# EAGLE library part MPU-6050 (library MRDT-Main)
MPU-6000 - I2C address is 0x68 with AD0 low and 0x69 with AD0 high.
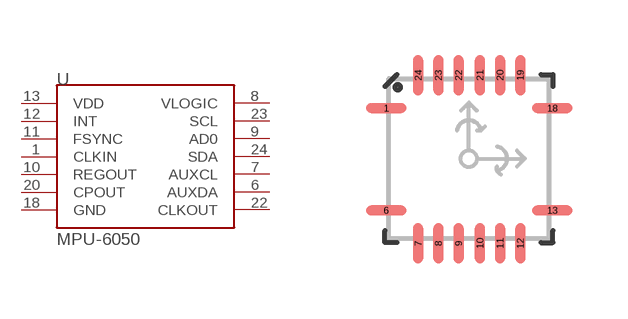
[diagram p1: symbol with the pads of QFN-24-TESTING; footprint QFN-24-TESTING]

Designator prefix U

## MPU-6050QFN-24  [QFN-24-TESTING]
1  CLKIN
6  AUXDA
7  AUXCL
8  VLOGIC
9  AD0
10  REGOUT
11  FSYNC
12  INT
13  VDD
18  GND
20  CPOUT
22  CLKOUT
23  SCL
24  SDA

## Footprint QFN-24-TESTING (pad centres in mm)
This is the testing package I pulled from the MPU-6050 breakout board. This package is tested and works.
smd 1.016 x 0.254: 1 -2.066,1.257; 6 -2.066,-1.297; 13 2.086,-1.297; 18 2.086,1.257
smd 0.254 x 1.016: 7 -1.267,-2.122; 8 -0.762,-2.122; 9 -0.258,-2.122; 10 0.278,-2.122; 11 0.78,-2.122; 12 1.287,-2.122; 19 1.287,2.082; 20 0.78,2.082; 21 0.278,2.082; 22 -0.258,2.082; 23 -0.762,2.082; 24 -1.267,2.082